# EAGLE library part PIC18(L)F45K50-?(40PIN) (library Gekkio-microchip)
40-Pin, Low-Power, High-Performance Microcontrollers with XLP Technology
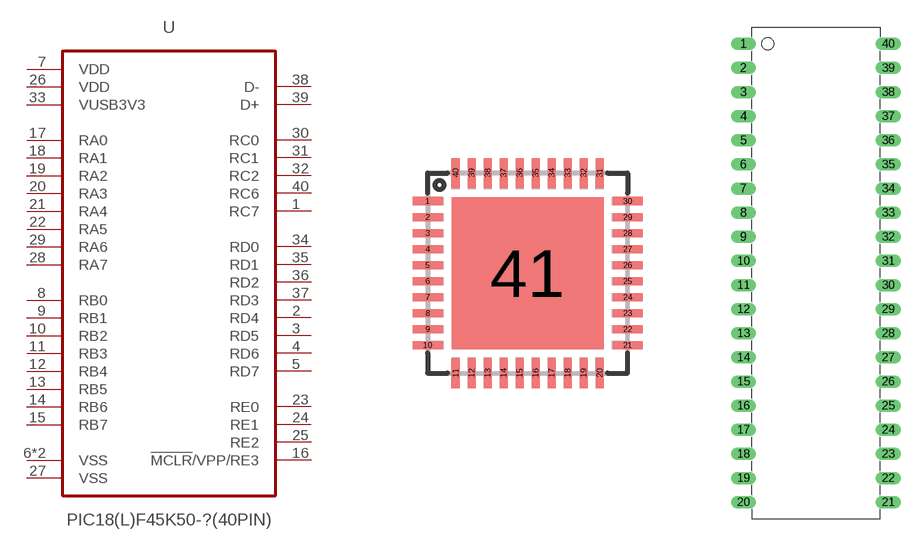
[diagram p1: symbol with the pads of UQFN40(MV); footprints UQFN40(MV), PDIP40(P/PL)]

Designator prefix U

## PIC18(L)F45K50-MV(40PIN)  [UQFN40(MV)]
1  RC7
2  RD4
3  RD5
4  RD6
5  RD7
6  VSS  pwr
7  VDD  pwr
8  RB0
9  RB1
10  RB2
11  RB3
12  RB4
13  RB5
14  RB6
15  RB7
16  !MCLR!/VPP/RE3
17  RA0
18  RA1
19  RA2
20  RA3
21  RA4
22  RA5
23  RE0
24  RE1
25  RE2
26  VDD  pwr
27  VSS  pwr
28  RA7
29  RA6
30  RC0
31  RC1
32  RC2
33  VUSB3V3  pwr
34  RD0
35  RD1
36  RD2
37  RD3
38  D-  pas
39  D+  pas
40  RC6
41  VSS  pwr

## PIC18(L)F45K50-P(40PIN)  [PDIP40(P/PL)]
1  !MCLR!/VPP/RE3
2  RA0
3  RA1
4  RA2
5  RA3
6  RA4
7  RA5
8  RE0
9  RE1
10  RE2
11  VDD  pwr
12  VSS  pwr
13  RA7
14  RA6
15  RC0
16  RC1
17  RC2
18  VUSB3V3  pwr
19  RD0
20  RD1
21  RD2
22  RD3
23  D-  pas
24  D+  pas
25  RC6
26  RC7
27  RD4
28  RD5
29  RD6
30  RD7
31  VSS  pwr
32  VDD  pwr
33  RB0
34  RB1
35  RB2
36  RB3
37  RB4
38  RB5
39  RB6
40  RB7

## Footprint UQFN40(MV) (pad centres in mm)
UQFN40 (MV) 40-Lead Ultra Thin Plastic Quad Flat, No Lead Package (MV) - 5x5x0.5 mm Body [UQFN] Not tested! Source: Microchip Packaging Specification, revision CE
smd 0.75 x 0.2: 1 -2.5,1.8; 2 -2.5,1.4; 3 -2.5,1; 4 -2.5,0.6; 5 -2.5,0.2; 6 -2.5,-0.2; 7 -2.5,-0.6; 8 -2.5,-1; 9 -2.5,-1.4; 10 -2.5,-1.8; 21 2.5,-1.8; 22 2.5,-1.4; 23 2.5,-1; 24 2.5,-0.6; 25 2.5,-0.2; 26 2.5,0.2; 27 2.5,0.6; 28 2.5,1; 29 2.5,1.4; 30 2.5,1.8
smd 0.2 x 0.75: 11 -1.8,-2.5; 12 -1.4,-2.5; 13 -1,-2.5; 14 -0.6,-2.5; 15 -0.2,-2.5; 16 0.2,-2.5; 17 0.6,-2.5; 18 1,-2.5; 19 1.4,-2.5; 20 1.8,-2.5; 31 1.8,2.5; 32 1.4,2.5; 33 1,2.5; 34 0.6,2.5; 35 0.2,2.5; 36 -0.2,2.5; 37 -0.6,2.5; 38 -1,2.5; 39 -1.4,2.5; 40 -1.8,2.5
smd 3.8 x 3.8: 41 0,0

## Footprint PDIP40(P/PL) (pad centres in mm)
PDIP40 (P/PL) 40-Lead Plastic Dual In-Line (P) - 600 mil Body [PDIP] Tested Source: Microchip Packaging Specification, revision CE
drill 0.813 long: 1 -7.62,24.13; 2 -7.62,21.59; 3 -7.62,19.05; 4 -7.62,16.51; 5 -7.62,13.97; 6 -7.62,11.43; 7 -7.62,8.89; 8 -7.62,6.35; 9 -7.62,3.81; 10 -7.62,1.27; 11 -7.62,-1.27; 12 -7.62,-3.81; 13 -7.62,-6.35; 14 -7.62,-8.89; 15 -7.62,-11.43; 16 -7.62,-13.97; 17 -7.62,-16.51; 18 -7.62,-19.05; 19 -7.62,-21.59; 20 -7.62,-24.13; 21 7.62,-24.13; 22 7.62,-21.59; 23 7.62,-19.05; 24 7.62,-16.51; 25 7.62,-13.97; 26 7.62,-11.43; 27 7.62,-8.89; 28 7.62,-6.35; 29 7.62,-3.81; 30 7.62,-1.27; 31 7.62,1.27; 32 7.62,3.81; 33 7.62,6.35; 34 7.62,8.89; 35 7.62,11.43; 36 7.62,13.97; 37 7.62,16.51; 38 7.62,19.05; 39 7.62,21.59; 40 7.62,24.13